# Altium schematic symbol library BG95.SchLib: 1 symbol
Pins are listed as number, name and electrical type; pins without a type are passive.

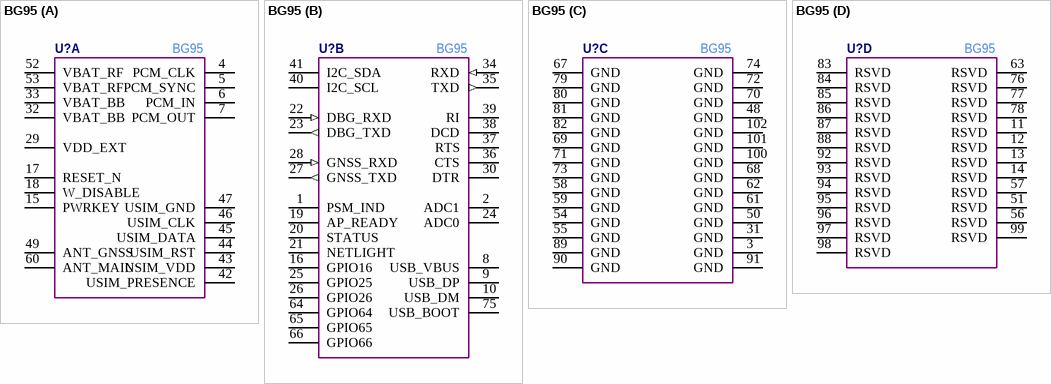
[diagram p0: symbol BG95]

## BG95
designator U?  Manufacturer Part Number: BG95  (hidden comment: *)
part A pins: 4 PCM_CLK, 5 PCM_SYNC, 6 PCM_IN, 7 PCM_OUT, 15 PWRKEY, 17 RESET_N, 18 W_DISABLE, 29 VDD_EXT, 32 VBAT_BB, 33 VBAT_BB, 42 USIM_PRESENCE, 43 USIM_VDD, 44 USIM_RST, 45 USIM_DATA, 46 USIM_CLK, 47 USIM_GND, 49 ANT_GNSS, 52 VBAT_RF, 53 VBAT_RF, 60 ANT_MAIN
part B pins: 1 PSM_IND, 2 ADC1, 8 USB_VBUS, 9 USB_DP, 10 USB_DM, 16 GPIO16, 19 AP_READY, 20 STATUS, 21 NETLIGHT, 22 DBG_RXD (in), 23 DBG_TXD (out), 24 ADC0, 25 GPIO25, 26 GPIO26, 27 GNSS_TXD (out), 28 GNSS_RXD (in), 30 DTR, 34 RXD (in), 35 TXD (out), 36 CTS, 37 RTS, 38 DCD, 39 RI, 40 I2C_SCL, 41 I2C_SDA, 64 GPIO64, 65 GPIO65, 66 GPIO66, 75 USB_BOOT
part C pins: 3 GND, 31 GND, 48 GND, 50 GND, 54 GND, 55 GND, 58 GND, 59 GND, 61 GND, 62 GND, 67 GND, 68 GND, 69 GND, 70 GND, 71 GND, 72 GND, 73 GND, 74 GND, 79 GND, 80 GND, 81 GND, 82 GND, 89 GND, 90 GND, 91 GND, 100 GND, 101 GND, 102 GND
part D pins: 11 RSVD, 12 RSVD, 13 RSVD, 14 RSVD, 51 RSVD, 56 RSVD, 57 RSVD, 63 RSVD, 76 RSVD, 77 RSVD, 78 RSVD, 83 RSVD, 84 RSVD, 85 RSVD, 86 RSVD, 87 RSVD, 88 RSVD, 92 RSVD, 93 RSVD, 94 RSVD, 95 RSVD, 96 RSVD, 97 RSVD, 98 RSVD, 99 RSVD